# Altium integrated library Linear Technology Power Management LDO Linear Regulators.IntLib: 2339 symbols (part 91 of 131)
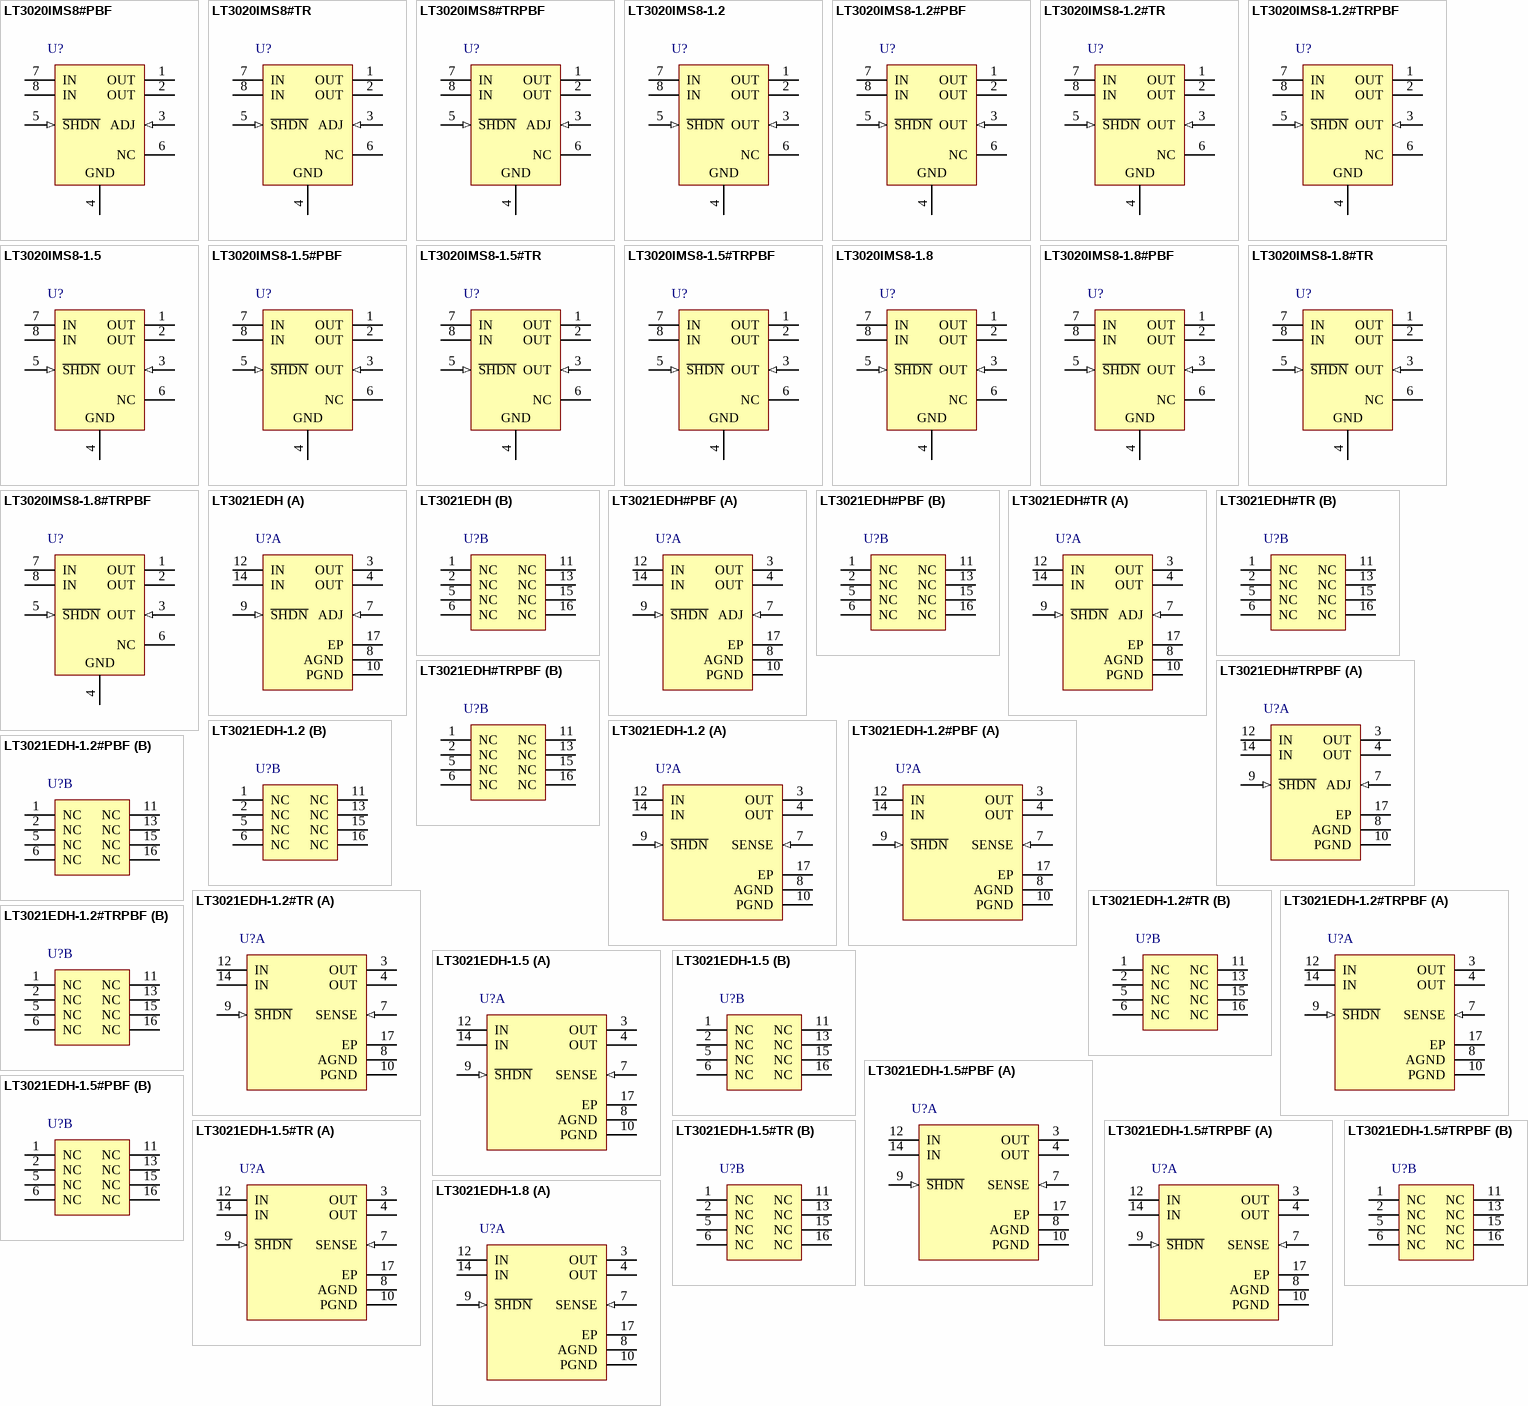
[diagram p159: symbols LT3020IMS8#PBF to LT3021EDH-1.8]

## LT3021EDH-1.2
designator U?
Low 160 mV Dropout Voltage, Internal PNP Pass Element, 200 mV Reference Voltage, 0.9 to 10 V Vin, 1.2 V Vout, 16-pin SON (DH-16), -40 to 125 degC; Manufacturer: Linear Technology; PartNumber: LT3021EDH-1.2; Discrete Pass Element: no; Dropout Voltage(V): 0.155; Iout(mA): 500; Isupply(mA): 0.12; Noise(uV): 300; Number of Outputs: 1; Output Voltage: 1.2 V; PSRR(dB): 60; Shutdown Current(uA): 3; Vin Max(V): 10; Vin Min(V): 0.9; DatasheetVersion: Rev. C; PackageVersion: Aug-08; PackageReference: DH-16; PackageDescription: 16-Pin Plastic DFN, Body 5 x 5 mm, Pitch 0.5 mm; Supplier 1: Newark; Supplier Part Number 1: 57M7978; RoHS: FALSE; Mounting Technology: Surface Mount; Code_JEDEC: MO-229; ComponentLink1Description: Manufacturer URL; ComponentLink1URL: http://www.linear.com/; ComponentLink2Description: Datasheet; ComponentLink2URL: http://cds.linear.com/docs/en/datasheet/3021fc.pdf; ComponentLink3Description: Package Specification; ComponentLink3URL: http://cds.linear.com/docs/en/datasheet/3021fc.pdf
footprint LT-DH-16-3450x4100TP_V (SON, 16-Leads, Body 5x5mm, Pitch 0.5mm, Thermal Pad 3.45x4.1mm)
part A pins: 3 OUT (power) "These pins supply power to the load. Use a minimum output capacitor of 3.3uF to prevent oscillations. Applications with large load transients require larger output capacitors to limit peak voltage transients. See the (See Datasheet)", 4 OUT (power) "These pins supply power to the load. Use a minimum output capacitor of 3.3uF to prevent oscillations. Applications with large load transients require larger output capacitors to limit peak voltage transients. See the (See Datasheet)", 7 SENSE (in) "This pin is the sense point for the internal resistor divider. It should be tied directly to the OUT pins for best results.", 8 AGND (power) "Ground.", 9 ~{SHDN} (in) "The S\H\D\N\ pin puts the LT3021 into a low power state. Pulling the S\H\D\N\ pin low turns the output off. Drive the S\H\D\N\ pin with either logic or an open collector/drain device with a pull-up resistor. The pull-up (See Datasheet)", 10 PGND (power) "Ground.", 12 IN (power) "These pins supply power to the device. The LT3021 requires a bypass capacitor at IN if it is more than six inches away from the main input filter capacitor. The output impedance of a battery rises with frequency, so include (See Datasheet)", 14 IN (power) "These pins supply power to the device. The LT3021 requires a bypass capacitor at IN if it is more than six inches away from the main input filter capacitor. The output impedance of a battery rises with frequency, so include (See Datasheet)", 17 EP (power) "Ground. Solder Pin 17 to the PCB ground. Connect directly to Pins 8, 10 for best performance."
part B pins: 1 NC "No Connect. No connect pins may be floated, tied to IN or tied to GND.", 2 NC "No Connect. No connect pins may be floated, tied to IN or tied to GND.", 5 NC "No Connect. No connect pins may be floated, tied to IN or tied to GND.", 6 NC "No Connect. No connect pins may be floated, tied to IN or tied to GND.", 11 NC "No Connect. No connect pins may be floated, tied to IN or tied to GND.", 13 NC "No Connect. No connect pins may be floated, tied to IN or tied to GND.", 15 NC "No Connect. No connect pins may be floated, tied to IN or tied to GND.", 16 NC "No Connect. No connect pins may be floated, tied to IN or tied to GND."

## LT3021EDH-1.2#PBF
designator U?
Low 160 mV Dropout Voltage, Internal PNP Pass Element, 200 mV Reference Voltage, 0.9 to 10 V Vin, 1.2 V Vout, 16-pin SON (DH-16), -40 to 125 degC, Pb-Free; Manufacturer: Linear Technology; PartNumber: LT3021EDH-1.2#PBF; Discrete Pass Element: no; Dropout Voltage(V): 0.155; Iout(mA): 500; Isupply(mA): 0.12; Noise(uV): 300; Number of Outputs: 1; Output Voltage: 1.2 V; PSRR(dB): 60; Shutdown Current(uA): 3; Vin Max(V): 10; Vin Min(V): 0.9; DatasheetVersion: Rev. C; PackageVersion: Aug-08; PackageReference: DH-16; PackageDescription: 16-Pin Plastic DFN, Body 5 x 5 mm, Pitch 0.5 mm; Supplier 1: Digi-Key; Supplier Part Number 1: LT3021EDH-1.2#PBF-ND; Supplier 2: Farnell; Supplier Part Number 2: 2102600; Supplier 3: Farnell; Supplier Part Number 3: 1503438; Supplier 4: Newark; Supplier Part Number 4: 57M7979; RoHS: TRUE; Mounting Technology: Surface Mount; Code_JEDEC: MO-229; ComponentLink1Description: Manufacturer URL; ComponentLink1URL: http://www.linear.com/; ComponentLink2Description: Datasheet; ComponentLink2URL: http://cds.linear.com/docs/en/datasheet/3021fc.pdf; ComponentLink3Description: Package Specification; ComponentLink3URL: http://cds.linear.com/docs/en/datasheet/3021fc.pdf
footprint LT-DH-16-3450x4100TP_V (SON, 16-Leads, Body 5x5mm, Pitch 0.5mm, Thermal Pad 3.45x4.1mm)
part A pins: 3 OUT (power) "These pins supply power to the load. Use a minimum output capacitor of 3.3uF to prevent oscillations. Applications with large load transients require larger output capacitors to limit peak voltage transients. See the (See Datasheet)", 4 OUT (power) "These pins supply power to the load. Use a minimum output capacitor of 3.3uF to prevent oscillations. Applications with large load transients require larger output capacitors to limit peak voltage transients. See the (See Datasheet)", 7 SENSE (in) "This pin is the sense point for the internal resistor divider. It should be tied directly to the OUT pins for best results.", 8 AGND (power) "Ground.", 9 ~{SHDN} (in) "The S\H\D\N\ pin puts the LT3021 into a low power state. Pulling the S\H\D\N\ pin low turns the output off. Drive the S\H\D\N\ pin with either logic or an open collector/drain device with a pull-up resistor. The pull-up (See Datasheet)", 10 PGND (power) "Ground.", 12 IN (power) "These pins supply power to the device. The LT3021 requires a bypass capacitor at IN if it is more than six inches away from the main input filter capacitor. The output impedance of a battery rises with frequency, so include (See Datasheet)", 14 IN (power) "These pins supply power to the device. The LT3021 requires a bypass capacitor at IN if it is more than six inches away from the main input filter capacitor. The output impedance of a battery rises with frequency, so include (See Datasheet)", 17 EP (power) "Ground. Solder Pin 17 to the PCB ground. Connect directly to Pins 8, 10 for best performance."
part B pins: 1 NC "No Connect. No connect pins may be floated, tied to IN or tied to GND.", 2 NC "No Connect. No connect pins may be floated, tied to IN or tied to GND.", 5 NC "No Connect. No connect pins may be floated, tied to IN or tied to GND.", 6 NC "No Connect. No connect pins may be floated, tied to IN or tied to GND.", 11 NC "No Connect. No connect pins may be floated, tied to IN or tied to GND.", 13 NC "No Connect. No connect pins may be floated, tied to IN or tied to GND.", 15 NC "No Connect. No connect pins may be floated, tied to IN or tied to GND.", 16 NC "No Connect. No connect pins may be floated, tied to IN or tied to GND."

## LT3021EDH-1.2#TR
designator U?
Low 160 mV Dropout Voltage, Internal PNP Pass Element, 200 mV Reference Voltage, 0.9 to 10 V Vin, 1.2 V Vout, 16-pin SON (DH-16), -40 to 125 degC, Tape and Reel; Manufacturer: Linear Technology; PartNumber: LT3021EDH-1.2#TR; Discrete Pass Element: no; Dropout Voltage(V): 0.155; Iout(mA): 500; Isupply(mA): 0.12; Noise(uV): 300; Number of Outputs: 1; Output Voltage: 1.2 V; PSRR(dB): 60; Shutdown Current(uA): 3; Vin Max(V): 10; Vin Min(V): 0.9; DatasheetVersion: Rev. C; PackageVersion: Aug-08; PackageReference: DH-16; PackageDescription: 16-Pin Plastic DFN, Body 5 x 5 mm, Pitch 0.5 mm; Packing: Tape and Reel; RoHS: FALSE; Mounting Technology: Surface Mount; Code_JEDEC: MO-229; ComponentLink1Description: Manufacturer URL; ComponentLink1URL: http://www.linear.com/; ComponentLink2Description: Datasheet; ComponentLink2URL: http://cds.linear.com/docs/en/datasheet/3021fc.pdf; ComponentLink3Description: Package Specification; ComponentLink3URL: http://cds.linear.com/docs/en/datasheet/3021fc.pdf
footprint LT-DH-16-3450x4100TP_V (SON, 16-Leads, Body 5x5mm, Pitch 0.5mm, Thermal Pad 3.45x4.1mm)
part A pins: 3 OUT (power) "These pins supply power to the load. Use a minimum output capacitor of 3.3uF to prevent oscillations. Applications with large load transients require larger output capacitors to limit peak voltage transients. See the (See Datasheet)", 4 OUT (power) "These pins supply power to the load. Use a minimum output capacitor of 3.3uF to prevent oscillations. Applications with large load transients require larger output capacitors to limit peak voltage transients. See the (See Datasheet)", 7 SENSE (in) "This pin is the sense point for the internal resistor divider. It should be tied directly to the OUT pins for best results.", 8 AGND (power) "Ground.", 9 ~{SHDN} (in) "The S\H\D\N\ pin puts the LT3021 into a low power state. Pulling the S\H\D\N\ pin low turns the output off. Drive the S\H\D\N\ pin with either logic or an open collector/drain device with a pull-up resistor. The pull-up (See Datasheet)", 10 PGND (power) "Ground.", 12 IN (power) "These pins supply power to the device. The LT3021 requires a bypass capacitor at IN if it is more than six inches away from the main input filter capacitor. The output impedance of a battery rises with frequency, so include (See Datasheet)", 14 IN (power) "These pins supply power to the device. The LT3021 requires a bypass capacitor at IN if it is more than six inches away from the main input filter capacitor. The output impedance of a battery rises with frequency, so include (See Datasheet)", 17 EP (power) "Ground. Solder Pin 17 to the PCB ground. Connect directly to Pins 8, 10 for best performance."
part B pins: 1 NC "No Connect. No connect pins may be floated, tied to IN or tied to GND.", 2 NC "No Connect. No connect pins may be floated, tied to IN or tied to GND.", 5 NC "No Connect. No connect pins may be floated, tied to IN or tied to GND.", 6 NC "No Connect. No connect pins may be floated, tied to IN or tied to GND.", 11 NC "No Connect. No connect pins may be floated, tied to IN or tied to GND.", 13 NC "No Connect. No connect pins may be floated, tied to IN or tied to GND.", 15 NC "No Connect. No connect pins may be floated, tied to IN or tied to GND.", 16 NC "No Connect. No connect pins may be floated, tied to IN or tied to GND."

## LT3021EDH-1.2#TRPBF
designator U?
Low 160 mV Dropout Voltage, Internal PNP Pass Element, 200 mV Reference Voltage, 0.9 to 10 V Vin, 1.2 V Vout, 16-pin SON (DH-16), -40 to 125 degC, Pb-Free, Tape and Reel; Manufacturer: Linear Technology; PartNumber: LT3021EDH-1.2#TRPBF; Discrete Pass Element: no; Dropout Voltage(V): 0.155; Iout(mA): 500; Isupply(mA): 0.12; Noise(uV): 300; Number of Outputs: 1; Output Voltage: 1.2 V; PSRR(dB): 60; Shutdown Current(uA): 3; Vin Max(V): 10; Vin Min(V): 0.9; DatasheetVersion: Rev. C; PackageVersion: Aug-08; PackageReference: DH-16; PackageDescription: 16-Pin Plastic DFN, Body 5 x 5 mm, Pitch 0.5 mm; Supplier 1: Digi-Key; Supplier Part Number 1: LT3021EDH-1.2#TRPBF-ND; Supplier 2: Newark; Supplier Part Number 2: 57M7981; Packing: Tape and Reel; RoHS: TRUE; Mounting Technology: Surface Mount; Code_JEDEC: MO-229; ComponentLink1Description: Manufacturer URL; ComponentLink1URL: http://www.linear.com/; ComponentLink2Description: Datasheet; ComponentLink2URL: http://cds.linear.com/docs/en/datasheet/3021fc.pdf; ComponentLink3Description: Package Specification; ComponentLink3URL: http://cds.linear.com/docs/en/datasheet/3021fc.pdf
footprint LT-DH-16-3450x4100TP_V (SON, 16-Leads, Body 5x5mm, Pitch 0.5mm, Thermal Pad 3.45x4.1mm)
part A pins: 3 OUT (power) "These pins supply power to the load. Use a minimum output capacitor of 3.3uF to prevent oscillations. Applications with large load transients require larger output capacitors to limit peak voltage transients. See the (See Datasheet)", 4 OUT (power) "These pins supply power to the load. Use a minimum output capacitor of 3.3uF to prevent oscillations. Applications with large load transients require larger output capacitors to limit peak voltage transients. See the (See Datasheet)", 7 SENSE (in) "This pin is the sense point for the internal resistor divider. It should be tied directly to the OUT pins for best results.", 8 AGND (power) "Ground.", 9 ~{SHDN} (in) "The S\H\D\N\ pin puts the LT3021 into a low power state. Pulling the S\H\D\N\ pin low turns the output off. Drive the S\H\D\N\ pin with either logic or an open collector/drain device with a pull-up resistor. The pull-up (See Datasheet)", 10 PGND (power) "Ground.", 12 IN (power) "These pins supply power to the device. The LT3021 requires a bypass capacitor at IN if it is more than six inches away from the main input filter capacitor. The output impedance of a battery rises with frequency, so include (See Datasheet)", 14 IN (power) "These pins supply power to the device. The LT3021 requires a bypass capacitor at IN if it is more than six inches away from the main input filter capacitor. The output impedance of a battery rises with frequency, so include (See Datasheet)", 17 EP (power) "Ground. Solder Pin 17 to the PCB ground. Connect directly to Pins 8, 10 for best performance."
part B pins: 1 NC "No Connect. No connect pins may be floated, tied to IN or tied to GND.", 2 NC "No Connect. No connect pins may be floated, tied to IN or tied to GND.", 5 NC "No Connect. No connect pins may be floated, tied to IN or tied to GND.", 6 NC "No Connect. No connect pins may be floated, tied to IN or tied to GND.", 11 NC "No Connect. No connect pins may be floated, tied to IN or tied to GND.", 13 NC "No Connect. No connect pins may be floated, tied to IN or tied to GND.", 15 NC "No Connect. No connect pins may be floated, tied to IN or tied to GND.", 16 NC "No Connect. No connect pins may be floated, tied to IN or tied to GND."

## LT3021EDH-1.5
designator U?
Low 160 mV Dropout Voltage, Internal PNP Pass Element, 200 mV Reference Voltage, 0.9 to 10 V Vin, 1.5 V Vout, 16-pin SON (DH-16), -40 to 125 degC; Manufacturer: Linear Technology; PartNumber: LT3021EDH-1.5; Discrete Pass Element: no; Dropout Voltage(V): 0.155; Iout(mA): 500; Isupply(mA): 0.12; Noise(uV): 300; Number of Outputs: 1; Output Voltage: 1.5 V; PSRR(dB): 58; Shutdown Current(uA): 3; Vin Max(V): 10; Vin Min(V): 0.9; DatasheetVersion: Rev. C; PackageVersion: Aug-08; PackageReference: DH-16; PackageDescription: 16-Pin Plastic DFN, Body 5 x 5 mm, Pitch 0.5 mm; RoHS: FALSE; Mounting Technology: Surface Mount; Code_JEDEC: MO-229; ComponentLink1Description: Manufacturer URL; ComponentLink1URL: http://www.linear.com/; ComponentLink2Description: Datasheet; ComponentLink2URL: http://cds.linear.com/docs/en/datasheet/3021fc.pdf; ComponentLink3Description: Package Specification; ComponentLink3URL: http://cds.linear.com/docs/en/datasheet/3021fc.pdf
footprint LT-DH-16-3450x4100TP_V (SON, 16-Leads, Body 5x5mm, Pitch 0.5mm, Thermal Pad 3.45x4.1mm)
part A pins: 3 OUT (power) "These pins supply power to the load. Use a minimum output capacitor of 3.3uF to prevent oscillations. Applications with large load transients require larger output capacitors to limit peak voltage transients. See the (See Datasheet)", 4 OUT (power) "These pins supply power to the load. Use a minimum output capacitor of 3.3uF to prevent oscillations. Applications with large load transients require larger output capacitors to limit peak voltage transients. See the (See Datasheet)", 7 SENSE (in) "This pin is the sense point for the internal resistor divider. It should be tied directly to the OUT pins for best results.", 8 AGND (power) "Ground.", 9 ~{SHDN} (in) "The S\H\D\N\ pin puts the LT3021 into a low power state. Pulling the S\H\D\N\ pin low turns the output off. Drive the S\H\D\N\ pin with either logic or an open collector/drain device with a pull-up resistor. The pull-up (See Datasheet)", 10 PGND (power) "Ground.", 12 IN (power) "These pins supply power to the device. The LT3021 requires a bypass capacitor at IN if it is more than six inches away from the main input filter capacitor. The output impedance of a battery rises with frequency, so include (See Datasheet)", 14 IN (power) "These pins supply power to the device. The LT3021 requires a bypass capacitor at IN if it is more than six inches away from the main input filter capacitor. The output impedance of a battery rises with frequency, so include (See Datasheet)", 17 EP (power) "Ground. Solder Pin 17 to the PCB ground. Connect directly to Pins 8, 10 for best performance."
part B pins: 1 NC "No Connect. No connect pins may be floated, tied to IN or tied to GND.", 2 NC "No Connect. No connect pins may be floated, tied to IN or tied to GND.", 5 NC "No Connect. No connect pins may be floated, tied to IN or tied to GND.", 6 NC "No Connect. No connect pins may be floated, tied to IN or tied to GND.", 11 NC "No Connect. No connect pins may be floated, tied to IN or tied to GND.", 13 NC "No Connect. No connect pins may be floated, tied to IN or tied to GND.", 15 NC "No Connect. No connect pins may be floated, tied to IN or tied to GND.", 16 NC "No Connect. No connect pins may be floated, tied to IN or tied to GND."

## LT3021EDH-1.5#PBF
designator U?
Low 160 mV Dropout Voltage, Internal PNP Pass Element, 200 mV Reference Voltage, 0.9 to 10 V Vin, 1.5 V Vout, 16-pin SON (DH-16), -40 to 125 degC, Pb-Free; Manufacturer: Linear Technology; PartNumber: LT3021EDH-1.5#PBF; Discrete Pass Element: no; Dropout Voltage(V): 0.155; Iout(mA): 500; Isupply(mA): 0.12; Noise(uV): 300; Number of Outputs: 1; Output Voltage: 1.5 V; PSRR(dB): 58; Shutdown Current(uA): 3; Vin Max(V): 10; Vin Min(V): 0.9; DatasheetVersion: Rev. C; PackageVersion: Aug-08; PackageReference: DH-16; PackageDescription: 16-Pin Plastic DFN, Body 5 x 5 mm, Pitch 0.5 mm; Supplier 1: Digi-Key; Supplier Part Number 1: LT3021EDH-1.5#PBF-ND; Supplier 2: Farnell; Supplier Part Number 2: 2295250; Supplier 3: Newark; Supplier Part Number 3: 57M7983; RoHS: TRUE; Mounting Technology: Surface Mount; Code_JEDEC: MO-229; ComponentLink1Description: Manufacturer URL; ComponentLink1URL: http://www.linear.com/; ComponentLink2Description: Datasheet; ComponentLink2URL: http://cds.linear.com/docs/en/datasheet/3021fc.pdf; ComponentLink3Description: Package Specification; ComponentLink3URL: http://cds.linear.com/docs/en/datasheet/3021fc.pdf
footprint LT-DH-16-3450x4100TP_V (SON, 16-Leads, Body 5x5mm, Pitch 0.5mm, Thermal Pad 3.45x4.1mm)
part A pins: 3 OUT (power) "These pins supply power to the load. Use a minimum output capacitor of 3.3uF to prevent oscillations. Applications with large load transients require larger output capacitors to limit peak voltage transients. See the (See Datasheet)", 4 OUT (power) "These pins supply power to the load. Use a minimum output capacitor of 3.3uF to prevent oscillations. Applications with large load transients require larger output capacitors to limit peak voltage transients. See the (See Datasheet)", 7 SENSE (in) "This pin is the sense point for the internal resistor divider. It should be tied directly to the OUT pins for best results.", 8 AGND (power) "Ground.", 9 ~{SHDN} (in) "The S\H\D\N\ pin puts the LT3021 into a low power state. Pulling the S\H\D\N\ pin low turns the output off. Drive the S\H\D\N\ pin with either logic or an open collector/drain device with a pull-up resistor. The pull-up (See Datasheet)", 10 PGND (power) "Ground.", 12 IN (power) "These pins supply power to the device. The LT3021 requires a bypass capacitor at IN if it is more than six inches away from the main input filter capacitor. The output impedance of a battery rises with frequency, so include (See Datasheet)", 14 IN (power) "These pins supply power to the device. The LT3021 requires a bypass capacitor at IN if it is more than six inches away from the main input filter capacitor. The output impedance of a battery rises with frequency, so include (See Datasheet)", 17 EP (power) "Ground. Solder Pin 17 to the PCB ground. Connect directly to Pins 8, 10 for best performance."
part B pins: 1 NC "No Connect. No connect pins may be floated, tied to IN or tied to GND.", 2 NC "No Connect. No connect pins may be floated, tied to IN or tied to GND.", 5 NC "No Connect. No connect pins may be floated, tied to IN or tied to GND.", 6 NC "No Connect. No connect pins may be floated, tied to IN or tied to GND.", 11 NC "No Connect. No connect pins may be floated, tied to IN or tied to GND.", 13 NC "No Connect. No connect pins may be floated, tied to IN or tied to GND.", 15 NC "No Connect. No connect pins may be floated, tied to IN or tied to GND.", 16 NC "No Connect. No connect pins may be floated, tied to IN or tied to GND."

## LT3021EDH-1.5#TR
designator U?
Low 160 mV Dropout Voltage, Internal PNP Pass Element, 200 mV Reference Voltage, 0.9 to 10 V Vin, 1.5 V Vout, 16-pin SON (DH-16), -40 to 125 degC, Tape and Reel; Manufacturer: Linear Technology; PartNumber: LT3021EDH-1.5#TR; Discrete Pass Element: no; Dropout Voltage(V): 0.155; Iout(mA): 500; Isupply(mA): 0.12; Noise(uV): 300; Number of Outputs: 1; Output Voltage: 1.5 V; PSRR(dB): 58; Shutdown Current(uA): 3; Vin Max(V): 10; Vin Min(V): 0.9; DatasheetVersion: Rev. C; PackageVersion: Aug-08; PackageReference: DH-16; PackageDescription: 16-Pin Plastic DFN, Body 5 x 5 mm, Pitch 0.5 mm; Packing: Tape and Reel; RoHS: FALSE; Mounting Technology: Surface Mount; Code_JEDEC: MO-229; ComponentLink1Description: Manufacturer URL; ComponentLink1URL: http://www.linear.com/; ComponentLink2Description: Datasheet; ComponentLink2URL: http://cds.linear.com/docs/en/datasheet/3021fc.pdf; ComponentLink3Description: Package Specification; ComponentLink3URL: http://cds.linear.com/docs/en/datasheet/3021fc.pdf
footprint LT-DH-16-3450x4100TP_V (SON, 16-Leads, Body 5x5mm, Pitch 0.5mm, Thermal Pad 3.45x4.1mm)
part A pins: 3 OUT (power) "These pins supply power to the load. Use a minimum output capacitor of 3.3uF to prevent oscillations. Applications with large load transients require larger output capacitors to limit peak voltage transients. See the (See Datasheet)", 4 OUT (power) "These pins supply power to the load. Use a minimum output capacitor of 3.3uF to prevent oscillations. Applications with large load transients require larger output capacitors to limit peak voltage transients. See the (See Datasheet)", 7 SENSE (in) "This pin is the sense point for the internal resistor divider. It should be tied directly to the OUT pins for best results.", 8 AGND (power) "Ground.", 9 ~{SHDN} (in) "The S\H\D\N\ pin puts the LT3021 into a low power state. Pulling the S\H\D\N\ pin low turns the output off. Drive the S\H\D\N\ pin with either logic or an open collector/drain device with a pull-up resistor. The pull-up (See Datasheet)", 10 PGND (power) "Ground.", 12 IN (power) "These pins supply power to the device. The LT3021 requires a bypass capacitor at IN if it is more than six inches away from the main input filter capacitor. The output impedance of a battery rises with frequency, so include (See Datasheet)", 14 IN (power) "These pins supply power to the device. The LT3021 requires a bypass capacitor at IN if it is more than six inches away from the main input filter capacitor. The output impedance of a battery rises with frequency, so include (See Datasheet)", 17 EP (power) "Ground. Solder Pin 17 to the PCB ground. Connect directly to Pins 8, 10 for best performance."
part B pins: 1 NC "No Connect. No connect pins may be floated, tied to IN or tied to GND.", 2 NC "No Connect. No connect pins may be floated, tied to IN or tied to GND.", 5 NC "No Connect. No connect pins may be floated, tied to IN or tied to GND.", 6 NC "No Connect. No connect pins may be floated, tied to IN or tied to GND.", 11 NC "No Connect. No connect pins may be floated, tied to IN or tied to GND.", 13 NC "No Connect. No connect pins may be floated, tied to IN or tied to GND.", 15 NC "No Connect. No connect pins may be floated, tied to IN or tied to GND.", 16 NC "No Connect. No connect pins may be floated, tied to IN or tied to GND."

## LT3021EDH-1.5#TRPBF
designator U?
Low 160 mV Dropout Voltage, Internal PNP Pass Element, 200 mV Reference Voltage, 0.9 to 10 V Vin, 1.5 V Vout, 16-pin SON (DH-16), -40 to 125 degC, Pb-Free, Tape and Reel; Manufacturer: Linear Technology; PartNumber: LT3021EDH-1.5#TRPBF; Discrete Pass Element: no; Dropout Voltage(V): 0.155; Iout(mA): 500; Isupply(mA): 0.12; Noise(uV): 300; Number of Outputs: 1; Output Voltage: 1.5 V; PSRR(dB): 58; Shutdown Current(uA): 3; Vin Max(V): 10; Vin Min(V): 0.9; DatasheetVersion: Rev. C; PackageVersion: Aug-08; PackageReference: DH-16; PackageDescription: 16-Pin Plastic DFN, Body 5 x 5 mm, Pitch 0.5 mm; Supplier 1: Digi-Key; Supplier Part Number 1: LT3021EDH-1.5#TRPBF-ND; Packing: Tape and Reel; RoHS: TRUE; Mounting Technology: Surface Mount; Code_JEDEC: MO-229; ComponentLink1Description: Manufacturer URL; ComponentLink1URL: http://www.linear.com/; ComponentLink2Description: Datasheet; ComponentLink2URL: http://cds.linear.com/docs/en/datasheet/3021fc.pdf; ComponentLink3Description: Package Specification; ComponentLink3URL: http://cds.linear.com/docs/en/datasheet/3021fc.pdf
footprint LT-DH-16-3450x4100TP_V (SON, 16-Leads, Body 5x5mm, Pitch 0.5mm, Thermal Pad 3.45x4.1mm)
part A pins: 3 OUT (power) "These pins supply power to the load. Use a minimum output capacitor of 3.3uF to prevent oscillations. Applications with large load transients require larger output capacitors to limit peak voltage transients. See the (See Datasheet)", 4 OUT (power) "These pins supply power to the load. Use a minimum output capacitor of 3.3uF to prevent oscillations. Applications with large load transients require larger output capacitors to limit peak voltage transients. See the (See Datasheet)", 7 SENSE (in) "This pin is the sense point for the internal resistor divider. It should be tied directly to the OUT pins for best results.", 8 AGND (power) "Ground.", 9 ~{SHDN} (in) "The S\H\D\N\ pin puts the LT3021 into a low power state. Pulling the S\H\D\N\ pin low turns the output off. Drive the S\H\D\N\ pin with either logic or an open collector/drain device with a pull-up resistor. The pull-up (See Datasheet)", 10 PGND (power) "Ground.", 12 IN (power) "These pins supply power to the device. The LT3021 requires a bypass capacitor at IN if it is more than six inches away from the main input filter capacitor. The output impedance of a battery rises with frequency, so include (See Datasheet)", 14 IN (power) "These pins supply power to the device. The LT3021 requires a bypass capacitor at IN if it is more than six inches away from the main input filter capacitor. The output impedance of a battery rises with frequency, so include (See Datasheet)", 17 EP (power) "Ground. Solder Pin 17 to the PCB ground. Connect directly to Pins 8, 10 for best performance."
part B pins: 1 NC "No Connect. No connect pins may be floated, tied to IN or tied to GND.", 2 NC "No Connect. No connect pins may be floated, tied to IN or tied to GND.", 5 NC "No Connect. No connect pins may be floated, tied to IN or tied to GND.", 6 NC "No Connect. No connect pins may be floated, tied to IN or tied to GND.", 11 NC "No Connect. No connect pins may be floated, tied to IN or tied to GND.", 13 NC "No Connect. No connect pins may be floated, tied to IN or tied to GND.", 15 NC "No Connect. No connect pins may be floated, tied to IN or tied to GND.", 16 NC "No Connect. No connect pins may be floated, tied to IN or tied to GND."

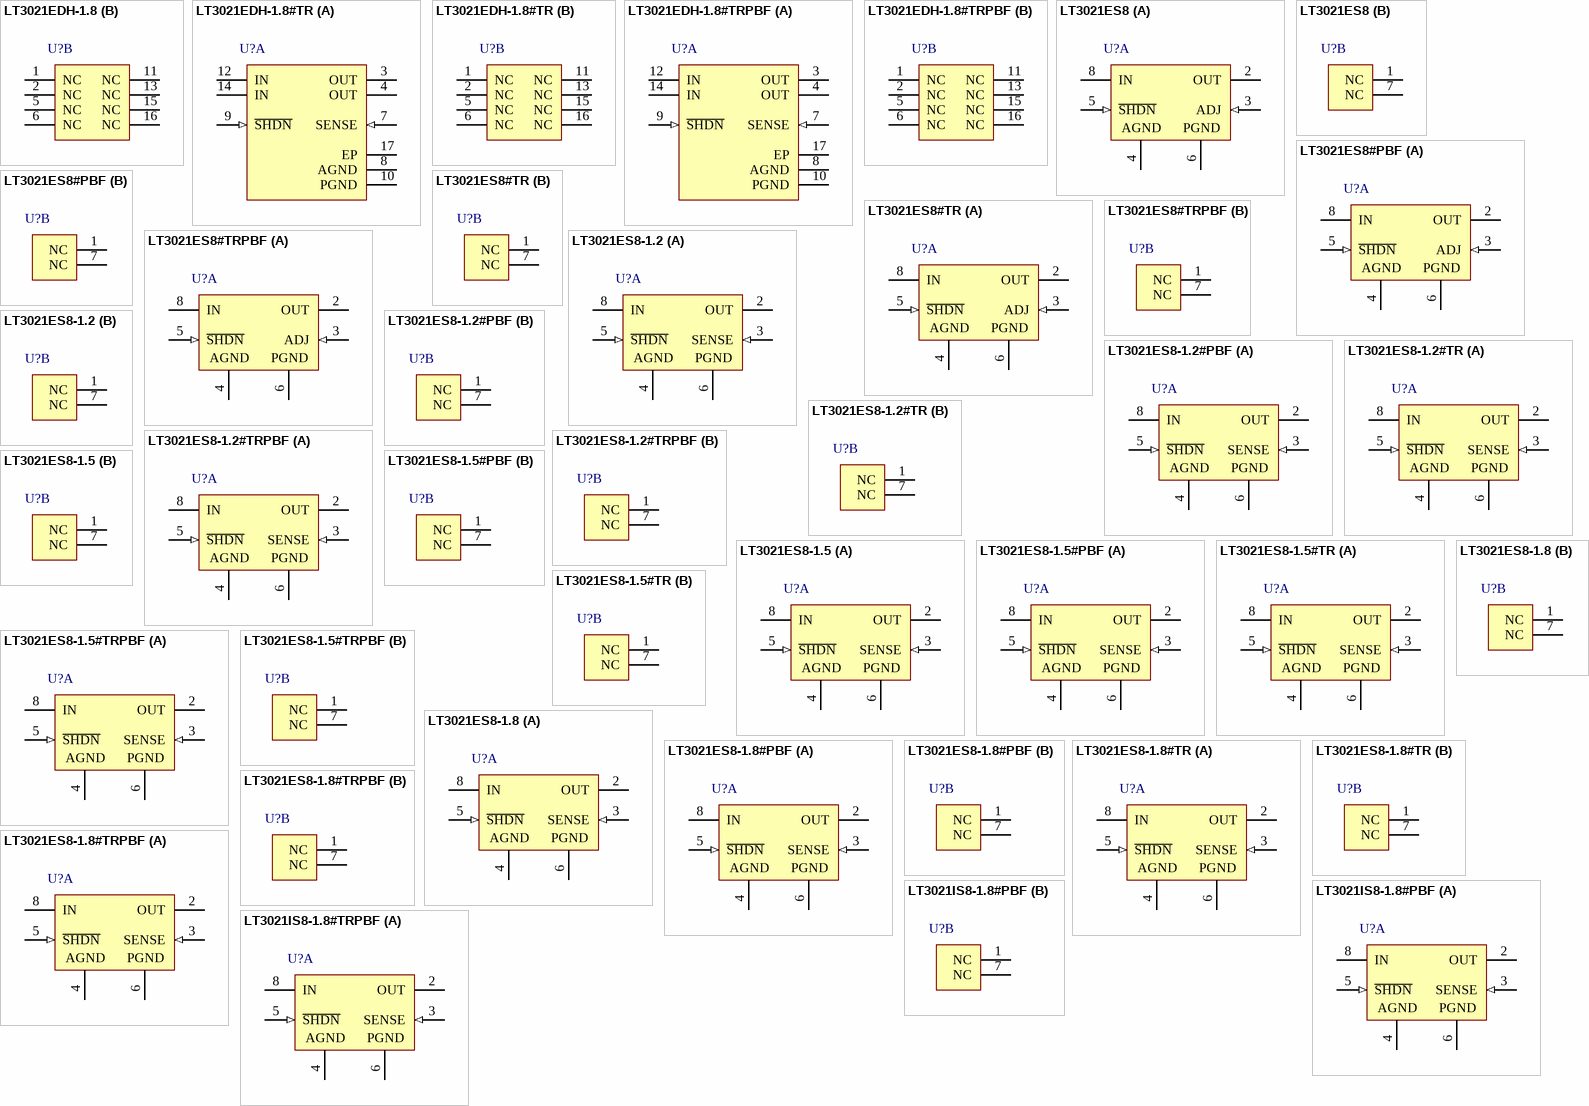
[diagram p53: symbols LT3021EDH-1.8 to LT3021IS8-1.8#TRPBF]

## LT3021EDH-1.8
designator U?
Low 160 mV Dropout Voltage, Internal PNP Pass Element, 200 mV Reference Voltage, 0.9 to 10 V Vin, 1.8 V Vout, 16-pin SON (DH-16), -40 to 125 degC; Manufacturer: Linear Technology; PartNumber: LT3021EDH-1.8; Discrete Pass Element: no; Dropout Voltage(V): 0.155; Iout(mA): 500; Isupply(mA): 0.12; Noise(uV): 300; Number of Outputs: 1; Output Voltage: 1.8 V; PSRR(dB): 56; Shutdown Current(uA): 3; Vin Max(V): 10; Vin Min(V): 0.9; DatasheetVersion: Rev. C; PackageVersion: Aug-08; PackageReference: DH-16; PackageDescription: 16-Pin Plastic DFN, Body 5 x 5 mm, Pitch 0.5 mm; RoHS: FALSE; Mounting Technology: Surface Mount; Code_JEDEC: MO-229; ComponentLink1Description: Manufacturer URL; ComponentLink1URL: http://www.linear.com/; ComponentLink2Description: Datasheet; ComponentLink2URL: http://cds.linear.com/docs/en/datasheet/3021fc.pdf; ComponentLink3Description: Package Specification; ComponentLink3URL: http://cds.linear.com/docs/en/datasheet/3021fc.pdf
footprint LT-DH-16-3450x4100TP_V (SON, 16-Leads, Body 5x5mm, Pitch 0.5mm, Thermal Pad 3.45x4.1mm)
part A pins: 3 OUT (power) "These pins supply power to the load. Use a minimum output capacitor of 3.3uF to prevent oscillations. Applications with large load transients require larger output capacitors to limit peak voltage transients. See the (See Datasheet)", 4 OUT (power) "These pins supply power to the load. Use a minimum output capacitor of 3.3uF to prevent oscillations. Applications with large load transients require larger output capacitors to limit peak voltage transients. See the (See Datasheet)", 7 SENSE (in) "This pin is the sense point for the internal resistor divider. It should be tied directly to the OUT pins for best results.", 8 AGND (power) "Ground.", 9 ~{SHDN} (in) "The S\H\D\N\ pin puts the LT3021 into a low power state. Pulling the S\H\D\N\ pin low turns the output off. Drive the S\H\D\N\ pin with either logic or an open collector/drain device with a pull-up resistor. The pull-up (See Datasheet)", 10 PGND (power) "Ground.", 12 IN (power) "These pins supply power to the device. The LT3021 requires a bypass capacitor at IN if it is more than six inches away from the main input filter capacitor. The output impedance of a battery rises with frequency, so include (See Datasheet)", 14 IN (power) "These pins supply power to the device. The LT3021 requires a bypass capacitor at IN if it is more than six inches away from the main input filter capacitor. The output impedance of a battery rises with frequency, so include (See Datasheet)", 17 EP (power) "Ground. Solder Pin 17 to the PCB ground. Connect directly to Pins 8, 10 for best performance."
part B pins: 1 NC "No Connect. No connect pins may be floated, tied to IN or tied to GND.", 2 NC "No Connect. No connect pins may be floated, tied to IN or tied to GND.", 5 NC "No Connect. No connect pins may be floated, tied to IN or tied to GND.", 6 NC "No Connect. No connect pins may be floated, tied to IN or tied to GND.", 11 NC "No Connect. No connect pins may be floated, tied to IN or tied to GND.", 13 NC "No Connect. No connect pins may be floated, tied to IN or tied to GND.", 15 NC "No Connect. No connect pins may be floated, tied to IN or tied to GND.", 16 NC "No Connect. No connect pins may be floated, tied to IN or tied to GND."

## LT3021EDH-1.8#TR
designator U?
Low 160 mV Dropout Voltage, Internal PNP Pass Element, 200 mV Reference Voltage, 0.9 to 10 V Vin, 1.8 V Vout, 16-pin SON (DH-16), -40 to 125 degC, Tape and Reel; Manufacturer: Linear Technology; PartNumber: LT3021EDH-1.8#TR; Discrete Pass Element: no; Dropout Voltage(V): 0.155; Iout(mA): 500; Isupply(mA): 0.12; Noise(uV): 300; Number of Outputs: 1; Output Voltage: 1.8 V; PSRR(dB): 56; Shutdown Current(uA): 3; Vin Max(V): 10; Vin Min(V): 0.9; DatasheetVersion: Rev. C; PackageVersion: Aug-08; PackageReference: DH-16; PackageDescription: 16-Pin Plastic DFN, Body 5 x 5 mm, Pitch 0.5 mm; Packing: Tape and Reel; RoHS: FALSE; Mounting Technology: Surface Mount; Code_JEDEC: MO-229; ComponentLink1Description: Manufacturer URL; ComponentLink1URL: http://www.linear.com/; ComponentLink2Description: Datasheet; ComponentLink2URL: http://cds.linear.com/docs/en/datasheet/3021fc.pdf; ComponentLink3Description: Package Specification; ComponentLink3URL: http://cds.linear.com/docs/en/datasheet/3021fc.pdf
footprint LT-DH-16-3450x4100TP_V (SON, 16-Leads, Body 5x5mm, Pitch 0.5mm, Thermal Pad 3.45x4.1mm)
part A pins: 3 OUT (power) "These pins supply power to the load. Use a minimum output capacitor of 3.3uF to prevent oscillations. Applications with large load transients require larger output capacitors to limit peak voltage transients. See the (See Datasheet)", 4 OUT (power) "These pins supply power to the load. Use a minimum output capacitor of 3.3uF to prevent oscillations. Applications with large load transients require larger output capacitors to limit peak voltage transients. See the (See Datasheet)", 7 SENSE (in) "This pin is the sense point for the internal resistor divider. It should be tied directly to the OUT pins for best results.", 8 AGND (power) "Ground.", 9 ~{SHDN} (in) "The S\H\D\N\ pin puts the LT3021 into a low power state. Pulling the S\H\D\N\ pin low turns the output off. Drive the S\H\D\N\ pin with either logic or an open collector/drain device with a pull-up resistor. The pull-up (See Datasheet)", 10 PGND (power) "Ground.", 12 IN (power) "These pins supply power to the device. The LT3021 requires a bypass capacitor at IN if it is more than six inches away from the main input filter capacitor. The output impedance of a battery rises with frequency, so include (See Datasheet)", 14 IN (power) "These pins supply power to the device. The LT3021 requires a bypass capacitor at IN if it is more than six inches away from the main input filter capacitor. The output impedance of a battery rises with frequency, so include (See Datasheet)", 17 EP (power) "Ground. Solder Pin 17 to the PCB ground. Connect directly to Pins 8, 10 for best performance."
part B pins: 1 NC "No Connect. No connect pins may be floated, tied to IN or tied to GND.", 2 NC "No Connect. No connect pins may be floated, tied to IN or tied to GND.", 5 NC "No Connect. No connect pins may be floated, tied to IN or tied to GND.", 6 NC "No Connect. No connect pins may be floated, tied to IN or tied to GND.", 11 NC "No Connect. No connect pins may be floated, tied to IN or tied to GND.", 13 NC "No Connect. No connect pins may be floated, tied to IN or tied to GND.", 15 NC "No Connect. No connect pins may be floated, tied to IN or tied to GND.", 16 NC "No Connect. No connect pins may be floated, tied to IN or tied to GND."

## LT3021EDH-1.8#TRPBF
designator U?
Low 160 mV Dropout Voltage, Internal PNP Pass Element, 200 mV Reference Voltage, 0.9 to 10 V Vin, 1.8 V Vout, 16-pin SON (DH-16), -40 to 125 degC, Pb-Free, Tape and Reel; Manufacturer: Linear Technology; PartNumber: LT3021EDH-1.8#TRPBF; Discrete Pass Element: no; Dropout Voltage(V): 0.155; Iout(mA): 500; Isupply(mA): 0.12; Noise(uV): 300; Number of Outputs: 1; Output Voltage: 1.8 V; PSRR(dB): 56; Shutdown Current(uA): 3; Vin Max(V): 10; Vin Min(V): 0.9; DatasheetVersion: Rev. C; PackageVersion: Aug-08; PackageReference: DH-16; PackageDescription: 16-Pin Plastic DFN, Body 5 x 5 mm, Pitch 0.5 mm; Supplier 1: Digi-Key; Supplier Part Number 1: LT3021EDH-1.8#TRPBF-ND; Packing: Tape and Reel; RoHS: TRUE; Mounting Technology: Surface Mount; Code_JEDEC: MO-229; ComponentLink1Description: Manufacturer URL; ComponentLink1URL: http://www.linear.com/; ComponentLink2Description: Datasheet; ComponentLink2URL: http://cds.linear.com/docs/en/datasheet/3021fc.pdf; ComponentLink3Description: Package Specification; ComponentLink3URL: http://cds.linear.com/docs/en/datasheet/3021fc.pdf
footprint LT-DH-16-3450x4100TP_V (SON, 16-Leads, Body 5x5mm, Pitch 0.5mm, Thermal Pad 3.45x4.1mm)
part A pins: 3 OUT (power) "These pins supply power to the load. Use a minimum output capacitor of 3.3uF to prevent oscillations. Applications with large load transients require larger output capacitors to limit peak voltage transients. See the (See Datasheet)", 4 OUT (power) "These pins supply power to the load. Use a minimum output capacitor of 3.3uF to prevent oscillations. Applications with large load transients require larger output capacitors to limit peak voltage transients. See the (See Datasheet)", 7 SENSE (in) "This pin is the sense point for the internal resistor divider. It should be tied directly to the OUT pins for best results.", 8 AGND (power) "Ground.", 9 ~{SHDN} (in) "The S\H\D\N\ pin puts the LT3021 into a low power state. Pulling the S\H\D\N\ pin low turns the output off. Drive the S\H\D\N\ pin with either logic or an open collector/drain device with a pull-up resistor. The pull-up (See Datasheet)", 10 PGND (power) "Ground.", 12 IN (power) "These pins supply power to the device. The LT3021 requires a bypass capacitor at IN if it is more than six inches away from the main input filter capacitor. The output impedance of a battery rises with frequency, so include (See Datasheet)", 14 IN (power) "These pins supply power to the device. The LT3021 requires a bypass capacitor at IN if it is more than six inches away from the main input filter capacitor. The output impedance of a battery rises with frequency, so include (See Datasheet)", 17 EP (power) "Ground. Solder Pin 17 to the PCB ground. Connect directly to Pins 8, 10 for best performance."
part B pins: 1 NC "No Connect. No connect pins may be floated, tied to IN or tied to GND.", 2 NC "No Connect. No connect pins may be floated, tied to IN or tied to GND.", 5 NC "No Connect. No connect pins may be floated, tied to IN or tied to GND.", 6 NC "No Connect. No connect pins may be floated, tied to IN or tied to GND.", 11 NC "No Connect. No connect pins may be floated, tied to IN or tied to GND.", 13 NC "No Connect. No connect pins may be floated, tied to IN or tied to GND.", 15 NC "No Connect. No connect pins may be floated, tied to IN or tied to GND.", 16 NC "No Connect. No connect pins may be floated, tied to IN or tied to GND."

## LT3021ES8
designator U?
Low 160 mV Dropout Voltage, Internal PNP Pass Element, 200 mV Reference Voltage, 0.9 to 10 V Vin, Adjustable Vout, 8-pin SOIC (S8-8), -40 to 125 degC; Manufacturer: Linear Technology; PartNumber: LT3021ES8; Discrete Pass Element: no; Dropout Voltage(V): 0.155; Iout(mA): 500; Isupply(mA): 0.12; Noise(uV): 300; Number of Outputs: 1; Output Voltage: Adj; PSRR(dB): 70; Shutdown Current(uA): 3; Vin Max(V): 10; Vin Min(V): 0.9; Vout Max(V): 9.8; Vout Min(V): 0.2; DatasheetVersion: Rev. C; PackageVersion: Rev. G, 03/2012; PackageReference: S8-8; PackageDescription: 8-Pin Plastic Small Outline (Narrow .150 Inch), Body 4.9 x 3.9 mm, Pitch 1.27 mm; RoHS: FALSE; Mounting Technology: Surface Mount; ComponentLink1Description: Manufacturer URL; ComponentLink1URL: http://www.linear.com/; ComponentLink2Description: Datasheet; ComponentLink2URL: http://cds.linear.com/docs/en/datasheet/3021fc.pdf; ComponentLink3Description: Package Specification; ComponentLink3URL: http://cds.linear.com/docs/en/packaging/05081610_G_SO8.pdf
footprint LT-S8-8_N (SOIC, 8-Leads, Body 4.9x3.9mm, Pitch 1.27mm, IPC Medium Density)
footprint LT-S8-8_L (SOIC, 8-Leads, Body 4.9x3.9mm, Pitch 1.27mm, IPC High Density)
footprint LT-S8-8_M (SOIC, 8-Leads, Body 4.9x3.9mm, Pitch 1.27mm, IPC Low Density)
part A pins: 2 OUT (power) "These pins supply power to the load. Use a minimum output capacitor of 3.3uF to prevent oscillations. Applications with large load transients require larger output capacitors to limit peak voltage transients. See the (See Datasheet)", 3 ADJ (in) "This pin is the inverting terminal to the error amplifier. Its typical input bias current of 20nA flows out of the pin (see curve of ADJ Pin Bias Current vs Temperature in the Typical Performance Characteristics). The ADJ (See Datasheet)", 4 AGND (power) "Ground.", 5 ~{SHDN} (in) "The S\H\D\N\ pin puts the LT3021 into a low power state. Pulling the S\H\D\N\ pin low turns the output off. Drive the S\H\D\N\ pin with either logic or an open collector/drain device with a pull-up resistor. The pull-up (See Datasheet)", 6 PGND (power) "Ground.", 8 IN (power) "These pins supply power to the device. The LT3021 requires a bypass capacitor at IN if it is more than six inches away from the main input filter capacitor. The output impedance of a battery rises with frequency, so include (See Datasheet)"
part B pins: 1 NC "No Connect. No connect pins may be floated, tied to IN or tied to GND.", 7 NC "No Connect. No connect pins may be fl oated, tied to IN or tied to GND."

## LT3021ES8#PBF
designator U?
Low 160 mV Dropout Voltage, Internal PNP Pass Element, 200 mV Reference Voltage, 0.9 to 10 V Vin, Adjustable Vout, 8-pin SOIC (S8-8), -40 to 125 degC, Pb-Free; Manufacturer: Linear Technology; PartNumber: LT3021ES8#PBF; Discrete Pass Element: no; Dropout Voltage(V): 0.155; Iout(mA): 500; Isupply(mA): 0.12; Noise(uV): 300; Number of Outputs: 1; Output Voltage: Adj; PSRR(dB): 70; Shutdown Current(uA): 3; Vin Max(V): 10; Vin Min(V): 0.9; Vout Max(V): 9.8; Vout Min(V): 0.2; DatasheetVersion: Rev. C; PackageVersion: Rev. G, 03/2012; PackageReference: S8-8; PackageDescription: 8-Pin Plastic Small Outline (Narrow .150 Inch), Body 4.9 x 3.9 mm, Pitch 1.27 mm; Supplier 1: Digi-Key; Supplier Part Number 1: LT3021ES8#PBF-ND; Supplier 2: Farnell; Supplier Part Number 2: 1273637; Supplier 3: Newark; Supplier Part Number 3: 57M8006; RoHS: TRUE; Mounting Technology: Surface Mount; ComponentLink1Description: Manufacturer URL; ComponentLink1URL: http://www.linear.com/; ComponentLink2Description: Datasheet; ComponentLink2URL: http://cds.linear.com/docs/en/datasheet/3021fc.pdf; ComponentLink3Description: Package Specification; ComponentLink3URL: http://cds.linear.com/docs/en/packaging/05081610_G_SO8.pdf
footprint LT-S8-8_N (SOIC, 8-Leads, Body 4.9x3.9mm, Pitch 1.27mm, IPC Medium Density)
footprint LT-S8-8_L (SOIC, 8-Leads, Body 4.9x3.9mm, Pitch 1.27mm, IPC High Density)
footprint LT-S8-8_M (SOIC, 8-Leads, Body 4.9x3.9mm, Pitch 1.27mm, IPC Low Density)
part A pins: 2 OUT (power) "These pins supply power to the load. Use a minimum output capacitor of 3.3uF to prevent oscillations. Applications with large load transients require larger output capacitors to limit peak voltage transients. See the (See Datasheet)", 3 ADJ (in) "This pin is the inverting terminal to the error amplifier. Its typical input bias current of 20nA flows out of the pin (see curve of ADJ Pin Bias Current vs Temperature in the Typical Performance Characteristics). The ADJ (See Datasheet)", 4 AGND (power) "Ground.", 5 ~{SHDN} (in) "The S\H\D\N\ pin puts the LT3021 into a low power state. Pulling the S\H\D\N\ pin low turns the output off. Drive the S\H\D\N\ pin with either logic or an open collector/drain device with a pull-up resistor. The pull-up (See Datasheet)", 6 PGND (power) "Ground.", 8 IN (power) "These pins supply power to the device. The LT3021 requires a bypass capacitor at IN if it is more than six inches away from the main input filter capacitor. The output impedance of a battery rises with frequency, so include (See Datasheet)"
part B pins: 1 NC "No Connect. No connect pins may be floated, tied to IN or tied to GND.", 7 NC "No Connect. No connect pins may be fl oated, tied to IN or tied to GND."

## LT3021ES8#TR
designator U?
Low 160 mV Dropout Voltage, Internal PNP Pass Element, 200 mV Reference Voltage, 0.9 to 10 V Vin, Adjustable Vout, 8-pin SOIC (S8-8), -40 to 125 degC, Tape and Reel; Manufacturer: Linear Technology; PartNumber: LT3021ES8#TR; Discrete Pass Element: no; Dropout Voltage(V): 0.155; Iout(mA): 500; Isupply(mA): 0.12; Noise(uV): 300; Number of Outputs: 1; Output Voltage: Adj; PSRR(dB): 70; Shutdown Current(uA): 3; Vin Max(V): 10; Vin Min(V): 0.9; Vout Max(V): 9.8; Vout Min(V): 0.2; DatasheetVersion: Rev. C; PackageVersion: Rev. G, 03/2012; PackageReference: S8-8; PackageDescription: 8-Pin Plastic Small Outline (Narrow .150 Inch), Body 4.9 x 3.9 mm, Pitch 1.27 mm; Supplier 1: Newark; Supplier Part Number 1: 57M8007; Packing: Tape and Reel; RoHS: FALSE; Mounting Technology: Surface Mount; ComponentLink1Description: Manufacturer URL; ComponentLink1URL: http://www.linear.com/; ComponentLink2Description: Datasheet; ComponentLink2URL: http://cds.linear.com/docs/en/datasheet/3021fc.pdf; ComponentLink3Description: Package Specification; ComponentLink3URL: http://cds.linear.com/docs/en/packaging/05081610_G_SO8.pdf
footprint LT-S8-8_N (SOIC, 8-Leads, Body 4.9x3.9mm, Pitch 1.27mm, IPC Medium Density)
footprint LT-S8-8_L (SOIC, 8-Leads, Body 4.9x3.9mm, Pitch 1.27mm, IPC High Density)
footprint LT-S8-8_M (SOIC, 8-Leads, Body 4.9x3.9mm, Pitch 1.27mm, IPC Low Density)
part A pins: 2 OUT (power) "These pins supply power to the load. Use a minimum output capacitor of 3.3uF to prevent oscillations. Applications with large load transients require larger output capacitors to limit peak voltage transients. See the (See Datasheet)", 3 ADJ (in) "This pin is the inverting terminal to the error amplifier. Its typical input bias current of 20nA flows out of the pin (see curve of ADJ Pin Bias Current vs Temperature in the Typical Performance Characteristics). The ADJ (See Datasheet)", 4 AGND (power) "Ground.", 5 ~{SHDN} (in) "The S\H\D\N\ pin puts the LT3021 into a low power state. Pulling the S\H\D\N\ pin low turns the output off. Drive the S\H\D\N\ pin with either logic or an open collector/drain device with a pull-up resistor. The pull-up (See Datasheet)", 6 PGND (power) "Ground.", 8 IN (power) "These pins supply power to the device. The LT3021 requires a bypass capacitor at IN if it is more than six inches away from the main input filter capacitor. The output impedance of a battery rises with frequency, so include (See Datasheet)"
part B pins: 1 NC "No Connect. No connect pins may be floated, tied to IN or tied to GND.", 7 NC "No Connect. No connect pins may be fl oated, tied to IN or tied to GND."

## LT3021ES8#TRPBF
designator U?
Low 160 mV Dropout Voltage, Internal PNP Pass Element, 200 mV Reference Voltage, 0.9 to 10 V Vin, Adjustable Vout, 8-pin SOIC (S8-8), -40 to 125 degC, Pb-Free, Tape and Reel; Manufacturer: Linear Technology; PartNumber: LT3021ES8#TRPBF; Discrete Pass Element: no; Dropout Voltage(V): 0.155; Iout(mA): 500; Isupply(mA): 0.12; Noise(uV): 300; Number of Outputs: 1; Output Voltage: Adj; PSRR(dB): 70; Shutdown Current(uA): 3; Vin Max(V): 10; Vin Min(V): 0.9; Vout Max(V): 9.8; Vout Min(V): 0.2; DatasheetVersion: Rev. C; PackageVersion: Rev. G, 03/2012; PackageReference: S8-8; PackageDescription: 8-Pin Plastic Small Outline (Narrow .150 Inch), Body 4.9 x 3.9 mm, Pitch 1.27 mm; Supplier 1: Digi-Key; Supplier Part Number 1: LT3021ES8#TRPBFTR-ND; Supplier 2: Digi-Key; Supplier Part Number 2: LT3021ES8#TRPBFCT-ND; Supplier 3: Digi-Key; Supplier Part Number 3: LT3021ES8#TRPBFDKR-ND; Supplier 4: Newark; Supplier Part Number 4: 57M8008; Packing: Tape and Reel; RoHS: TRUE; Mounting Technology: Surface Mount; ComponentLink1Description: Manufacturer URL; ComponentLink1URL: http://www.linear.com/; ComponentLink2Description: Datasheet; ComponentLink2URL: http://cds.linear.com/docs/en/datasheet/3021fc.pdf; ComponentLink3Description: Package Specification; ComponentLink3URL: http://cds.linear.com/docs/en/packaging/05081610_G_SO8.pdf
footprint LT-S8-8_N (SOIC, 8-Leads, Body 4.9x3.9mm, Pitch 1.27mm, IPC Medium Density)
footprint LT-S8-8_L (SOIC, 8-Leads, Body 4.9x3.9mm, Pitch 1.27mm, IPC High Density)
footprint LT-S8-8_M (SOIC, 8-Leads, Body 4.9x3.9mm, Pitch 1.27mm, IPC Low Density)
part A pins: 2 OUT (power) "These pins supply power to the load. Use a minimum output capacitor of 3.3uF to prevent oscillations. Applications with large load transients require larger output capacitors to limit peak voltage transients. See the (See Datasheet)", 3 ADJ (in) "This pin is the inverting terminal to the error amplifier. Its typical input bias current of 20nA flows out of the pin (see curve of ADJ Pin Bias Current vs Temperature in the Typical Performance Characteristics). The ADJ (See Datasheet)", 4 AGND (power) "Ground.", 5 ~{SHDN} (in) "The S\H\D\N\ pin puts the LT3021 into a low power state. Pulling the S\H\D\N\ pin low turns the output off. Drive the S\H\D\N\ pin with either logic or an open collector/drain device with a pull-up resistor. The pull-up (See Datasheet)", 6 PGND (power) "Ground.", 8 IN (power) "These pins supply power to the device. The LT3021 requires a bypass capacitor at IN if it is more than six inches away from the main input filter capacitor. The output impedance of a battery rises with frequency, so include (See Datasheet)"
part B pins: 1 NC "No Connect. No connect pins may be floated, tied to IN or tied to GND.", 7 NC "No Connect. No connect pins may be fl oated, tied to IN or tied to GND."